# Altium footprint library TouchBoard.PcbLib: 7 footprints
Each footprint in its own frame and in the unit in brackets; x right, y up, seen from the top. Pads: shape width x height; smd on the part's side, far side on the other; paste and mask are expansions set on the pad; w line width, h text height; cw(c..) or ccw(c..) is an arc to the next point about the centre after c.
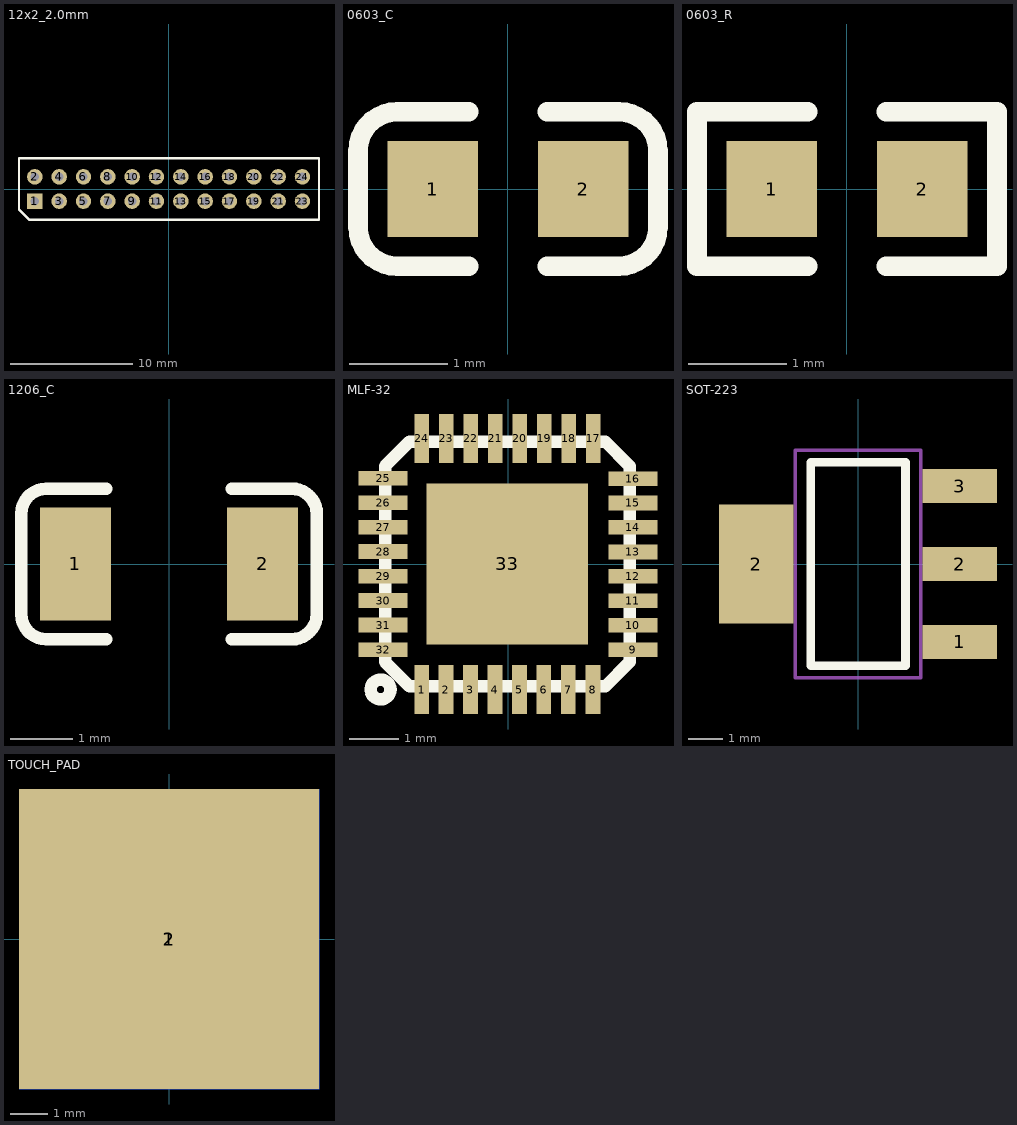
[diagram p0: the footprints below, top view; thin cyan lines are the x and y axes]

## 12x2_2.0mm [mm]
pads (24):
  rect 1.27x1.27 / inner round 1.524 / far side rect 1.27x1.27 hole 0.7: 1(-11,-1)
  round 1.27 / inner round 1.524 / far side round 1.27 hole 0.7: 2(-11,1) 3(-9,-1) 4(-9,1) 5(-7,-1) 6(-7,1) 7(-5,-1) 8(-5,1) 9(-3,-1) 10(-3,1) 11(-1,-1) 12(-1,1) 13(1,-1) 14(1,1) 15(3,-1) 16(3,1) 17(5,-1) 18(5,1) 19(7,-1) 20(7,1) 21(9,-1) 22(9,1) 23(11,-1) 24(11,1)
Top Overlay:
  lines w0.203: -12.3,-1.67 -12.3,2.54 12.361,2.54 12.361,-2.54 -11.43,-2.54 -12.3,-1.67
Mechanical 8:
  text "2" at -10.746,1 h0.64
  text "1" at -10.746,-1 h0.64
  text "5" at -6.746,-1 h0.64
  text "6" at -6.746,1 h0.64
  text "11" at -0.492,-1 h0.64
  text "12" at -0.492,1 h0.64
  text "9" at -2.746,-1 h0.64
  text "7" at -4.746,-1 h0.64
  text "10" at -2.492,1 h0.64
  text "8" at -4.746,1 h0.64
  text "16" at 3.508,1 h0.64
  text "20" at 7.508,1 h0.64
  text "19" at 7.508,-1 h0.64
  text "18" at 5.508,1 h0.64
  text "17" at 5.508,-1 h0.64
  text "13" at 1.508,-1 h0.64
  text "4" at -8.746,1 h0.64
  text "14" at 1.508,1 h0.64
  text "15" at 3.508,-1 h0.64
  text "3" at -8.746,-1 h0.64

## 0603_C [mm]
pads (2):
  rect 0.93x0.98 smd: 1(-0.77,0) 2(0.77,0)
Top Overlay:
  lines w0.2: -0.4,-0.79 -1.135,-0.79 cw(c-1.135,-0.39) -1.535,-0.39 -1.535,0.39 cw(c-1.135,0.39) -1.135,0.79 -0.4,0.79 ; 0.4,-0.79 1.135,-0.79 ccw(c1.135,-0.39) 1.535,-0.39 1.535,0.39 ccw(c1.135,0.39) 1.135,0.79 0.4,0.79
3D body: height 0.3, standoff 0, extent -0.8,-0.4 0.8,0.4

## 0603_R [mm]
pads (2):
  rect 0.93x0.98 smd: 1(-0.77,0) 2(0.77,0)
Top Overlay:
  lines w0.2: -0.4,-0.79 -1.535,-0.79 -1.535,0.79 -0.4,0.79 ; 0.4,-0.79 1.535,-0.79 1.535,0.79 0.4,0.79
3D body: height 0.56, standoff 0, extent -0.85,-0.4 0.85,0.4

## 1206_C [mm]
pads (2):
  rect 1.13x1.8 smd: 1(-1.49,0) 2(1.49,0)
Top Overlay:
  lines w0.2: -1,-1.2 -1.955,-1.2 cw(c-1.955,-0.8) -2.355,-0.8 -2.355,0.8 cw(c-1.955,0.8) -1.955,1.2 -1,1.2 ; 1,-1.2 1.955,-1.2 ccw(c1.955,-0.8) 2.355,-0.8 2.355,0.8 ccw(c1.955,0.8) 1.955,1.2 1,1.2
3D body: height 1, standoff 0, extent -1.602,-0.813 1.598,0.787

## MLF-32 [mm]
pads (33):
  rect 0.3x1 smd: 1(-1.766,-2.566) 2(-1.268,-2.566) 3(-0.767,-2.566) 4(-0.267,-2.566) 5(0.233,-2.566) 6(0.734,-2.566) 7(1.232,-2.566) 8(1.737,-2.566) 17(1.74,2.566) 18(1.242,2.566) 19(0.741,2.566) 20(0.241,2.566) 21(-0.259,2.566) 22(-0.76,2.566) 23(-1.26,2.566) 24(-1.76,2.566)
  rect 1x0.3 smd: 9(2.553,-1.752) 10(2.553,-1.255) 11(2.553,-0.752) 12(2.553,-0.251) 13(2.553,0.247) 14(2.553,0.749) 15(2.553,1.247) 16(2.553,1.745) 25(-2.553,1.753) 26(-2.553,1.255) 27(-2.553,0.752) 28(-2.553,0.254) 29(-2.553,-0.249) 30(-2.553,-0.747) 31(-2.553,-1.247) 32(-2.553,-1.75)
  rect 3.3x3.3 smd: 33(-0.013,0)
Top Overlay:
  circle w0.254: c-2.604,-2.565 r0.203
  lines w0.254: -2.513,-2 -2.013,-2.5 ; -2.513,2 -2.013,2.5 ; -2.512,-2 -2.512,2 ; -2.013,-2.498 1.987,-2.498 ; -2.013,2.501 1.987,2.501 ; 1.987,-2.5 2.487,-2 2.486,2 1.987,2.5

## SOT-223 [mm]
pads (4):
  rect 2.2x1 smd: 1(3,-2.3) 2(3,0) 3(3,2.3)
  rect 2.2x3.5 smd: 2(-3,0)
Top Overlay:
  lines w0.254: -1.4,-3 -1.4,3 1.4,3 1.4,-3 -1.4,-3
Mechanical 13:
  lines w0.1: -1.85,-3.35 1.85,-3.35 1.85,3.35 -1.85,3.35 -1.85,-3.35
3D body: height 1.64, standoff -0.04, extent -3.49,-3.242 3.49,3.243

## TOUCH_PAD [mm]
pads (2):
  rect 8x8 smd: 1(0,0)
  rect 8x8 smd far side: 2(0,0)
Keep-Out Layer:
  circle w0.254: c0,0 r3.5